# EAGLE library part ADM2483 (library icontroller)
RS-485 Transceiver, iCoupler® Isolated, Half-Duplex
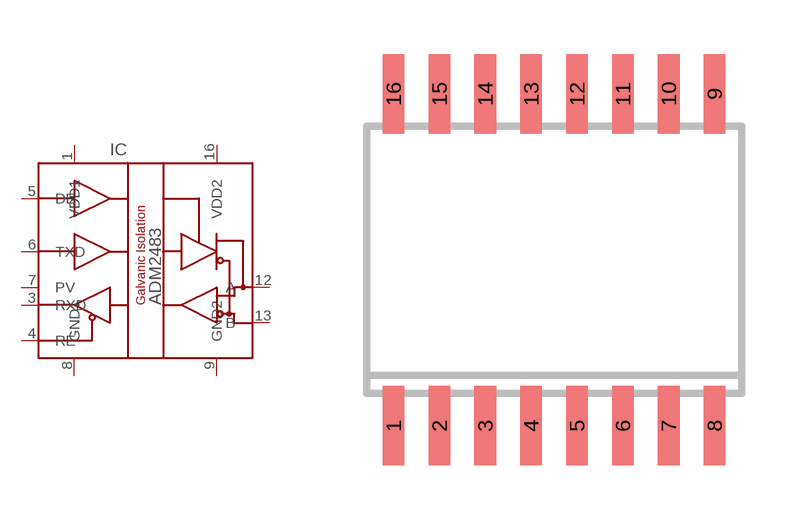
[diagram p0: symbol with the pads of SO16W; footprint SO16W]

Designator prefix IC

## ADM2483  [SO16W]
1  VDD1  pwr
3  RXD  out
4  RE  in
5  DE  in
6  TXD  in
7  PV  in
8  GND1  pwr
9  GND2  pwr
12  A
13  B
16  VDD2  pwr

## Footprint SO16W (pad centres in mm)
SMALL OUTLINE INTEGRATED CIRCUIT wide body 7.5 mm/JEDEC MS-013AA
smd 0.6 x 2.2: 1 -4.445,-4.6; 2 -3.175,-4.6; 3 -1.905,-4.6; 4 -0.635,-4.6; 5 0.635,-4.6; 6 1.905,-4.6; 7 3.175,-4.6; 8 4.445,-4.6; 9 4.445,4.6; 10 3.175,4.6; 11 1.905,4.6; 12 0.635,4.6; 13 -0.635,4.6; 14 -1.905,4.6; 15 -3.175,4.6; 16 -4.445,4.6